# Altium integrated library WD Converter Serial to Parallel.IntLib: 2 symbols
Pins are listed as number, name and electrical type; pins without a type are passive.

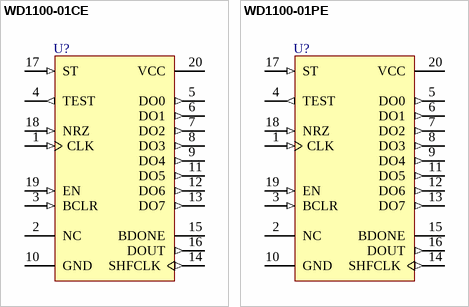
[diagram p0: symbols WD1100-01CE to WD1100-01PE]

## WD1100-01CE
designator U?
Serial/Parallel Converter; PackageDocument: 1984; Published: 8-Jun-2000; LatestRevisionDate: 4-Mar-2005; LatestRevisionNote: Stylized 3D Model Added.; DatasheetDocument: 1984; PackageReference: CE20; Publisher: Altium Limited; ComponentLink1Description: Manufacturer Link; ComponentLink1URL: http://www.wdc.com/
footprint CE20 (DIP; 20 Leads; Row Spacing 7.62 mm; Pitch 2.54 mm)
3D model CE20 (DIP; 20 Leads; Row Spacing 7.62 mm; Pitch 2.54 mm)
pins: 1 CLK (in), 2 NC, 3 BCLR (in), 4 TEST (out), 5 DO0 (out), 6 DO1 (out), 7 DO2 (out), 8 DO3 (out), 9 DO4 (out), 10 GND (power), 11 DO5 (out), 12 DO6 (out), 13 DO7 (out), 14 SHFCLK (out), 15 BDONE (hiz), 16 DOUT (out), 17 ST (in), 18 NRZ (in), 19 EN (in), 20 VCC (power)

## WD1100-01PE
designator U?
Serial/Parallel Converter; PackageDocument: 1984; Published: 8-Jun-2000; LatestRevisionDate: 4-Mar-2005; LatestRevisionNote: Stylized 3D Model Added.; DatasheetDocument: 1984; PackageReference: PE20; Publisher: Altium Limited; ComponentLink1Description: Manufacturer Link; ComponentLink1URL: http://www.wdc.com/; Code_JEDEC: MS-001-AD
footprint PE20 (DIP; 20 Leads; Row Spacing 7.62 mm; Pitch 2.54 mm)
3D model PE20 (DIP; 20 Leads; Row Spacing 7.62 mm; Pitch 2.54 mm)
pins: 1 CLK (in), 2 NC, 3 BCLR (in), 4 TEST (out), 5 DO0 (out), 6 DO1 (out), 7 DO2 (out), 8 DO3 (out), 9 DO4 (out), 10 GND (power), 11 DO5 (out), 12 DO6 (out), 13 DO7 (out), 14 SHFCLK (out), 15 BDONE (hiz), 16 DOUT (out), 17 ST (in), 18 NRZ (in), 19 EN (in), 20 VCC (power)